# Altium footprint library relay.PcbLib: 6 footprints
Each footprint in its own frame and in the unit in brackets; x right, y up, seen from the top. Pads: shape width x height; smd on the part's side, far side on the other; paste and mask are expansions set on the pad; w line width, h text height; cw(c..) or ccw(c..) is an arc to the next point about the centre after c.
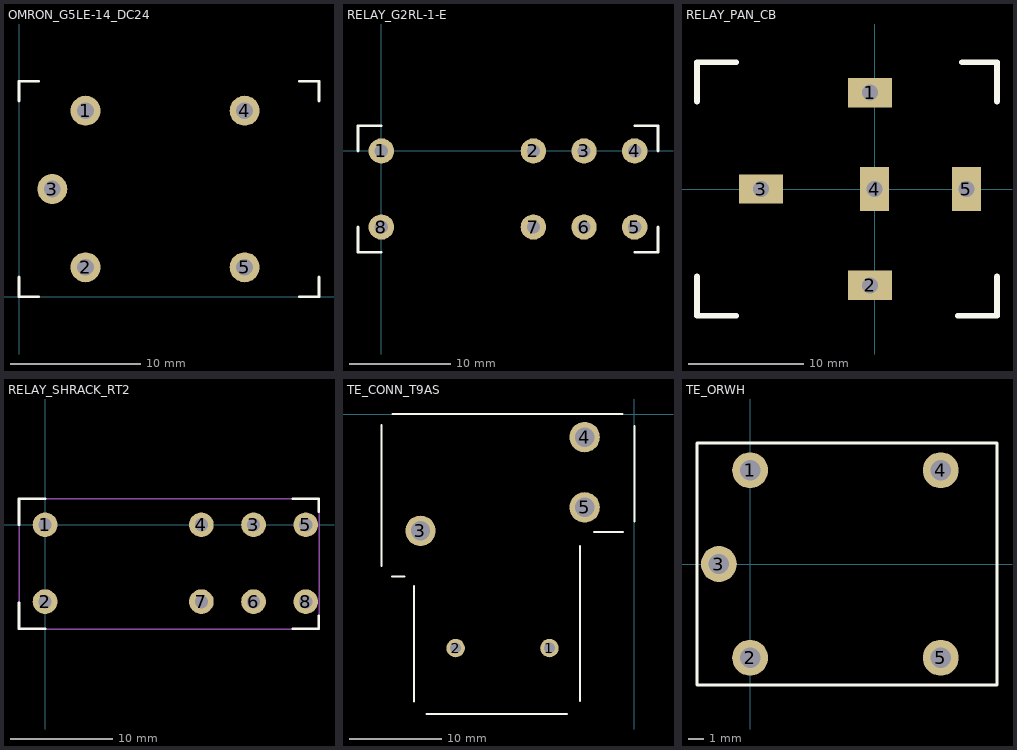
[diagram p0: the footprints below, top view; thin cyan lines are the x and y axes]

## OMRON_G5LE-14_DC24 [mm] "Omron 24V 10A relay G5LE-14"
pads (5):
  round 2.3 hole 1.3: 1(5.1,14.25) 2(5.1,2.25) 3(2.55,8.25) 4(17.3,14.25) 5(17.3,2.25)
Top Overlay:
  lines w0.2: 0,1.5 0,0 1.5,0 ; 0,15 0,16.5 1.5,16.5 ; 21.5,0 23,0 23,1.5 ; 21.5,16.5 23,16.5 23,15

## RELAY_G2RL-1-E [mm] "Omron G2RL-1-E Relay"
pads (8):
  round 2.5 hole 1.3: 1(0,0) 2(15,0) 3(20,0) 4(25,0) 5(25,-7.5) 6(20,-7.5) 7(15,-7.5) 8(0,-7.5)
Top Overlay:
  lines w0.254: -2.3,-7.5 -2.3,-10 0,-10 ; -2.3,0 -2.3,2.5 0,2.5 ; 25,-10 27.3,-10 27.3,-7.5 ; 25,2.5 27.3,2.5 27.3,0
3D body: height 0.25, standoff -26.8, extent 18.3,5.6 18.3,5.6
3D body: height 15.7, standoff 0, extent -2.3,-10 27.3,2.5

## RELAY_PAN_CB [mil] "Relay, Panasonic CB Series"
pads (5):
  rect 150x100 hole 55 square: 1(-16,330.5) 2(-16,-330.5) 3(-390,0)
  rect 100x150 hole 55 square: 4(0,0) 5(315,0)
Top Overlay:
  lines w20: -610,-300 -610,-435 -475,-435 ; -610,300 -610,435 -475,435 ; 285,-435 420,-435 420,-300 ; 300,435 420,435 420,300

## RELAY_SHRACK_RT2 [mm]
pads (8):
  round 2.4 hole 1.3: 1(0,0) 2(0,-7.493) 3(20.32,0) 4(15.24,0) 5(25.4,0) 6(20.32,-7.493) 7(15.24,-7.493) 8(25.4,-7.493)
Top Overlay:
  lines w0.254: -2.54,-7.62 -2.54,-10.16 0,-10.16 ; -2.54,0 -2.54,2.54 0,2.54 ; 24.13,-10.16 26.67,-10.16 26.67,-8.89 ; 24.13,2.54 26.67,2.54 26.67,1.27
Mechanical 13:
  lines w0.127: -2.525,-10.175 -2.525,2.525 26.7,2.525 26.7,-10.2 -2.5,-10.2 -2.525,-10.175
3D body: height 16, standoff 0, extent -2.525,-10.2 26.7,2.525

## TE_CONN_T9AS [mm] "T9AS/V"
pads (5):
  round 2 hole 1.2: 1(-9.21,-25.36) 2(-19.37,-25.36)
  round 3.3 hole 2.1: 3(-23.18,-12.66) 4(-5.4,-2.5) 5(-5.4,-10.12)
Top Overlay:
  lines w0.2: -27.4,-16.45 -27.4,-1.2 ; -26.25,-17.6 -24.9,-17.6 ; -26.2,0 -1.3,0 ; -23.9,-31.15 -23.9,-18.6 ; -22.55,-32.5 -7.3,-32.5 ; -5.9,-31.1 -5.9,-14.3 ; -4.4,-12.8 -1.25,-12.8 ; 0,-11.65 0,-1.3
3D body: height 20.4, standoff 0, extent -27.4,-32.5 0,0

## TE_ORWH [mm] "TE Conn Potter & Brumfield Relay ORWH series"
pads (5):
  round 2.3 hole 1.3: 1(0,6) 2(0,-6) 3(-2,0) 4(12.2,6) 5(12.2,-6)
Top Overlay:
  lines w0.2: -3.4,-7.75 15.8,-7.75 15.8,7.75 -3.4,7.75 -3.4,-7.75
3D body: height 15, standoff 0, extent -3.4,-7.75 15.8,7.75